# Altium schematic symbol library RES-ADJ-50K(10%).SCHLIB: 1 symbol
Pins are listed as number, name and electrical type; pins without a type are passive.

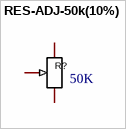
[diagram p0: symbol RES-ADJ-50k(10%)]

## RES-ADJ-50k(10%)
designator R?, comment 3362P-1-503  (value not drawn)
Name: RES-ADJ-50K(10%); Designer: U?; Symbol: 3362P-1-503; Device: 3362P-1-503
footprint RES-ADJ-TH_3P-L7.1-W6.9-P2.50-L_3362P
pins: 1, 2, 3
text: 50K